# Altium schematic symbol library PDU.SchLib: 91 symbols (part 6 of 11)
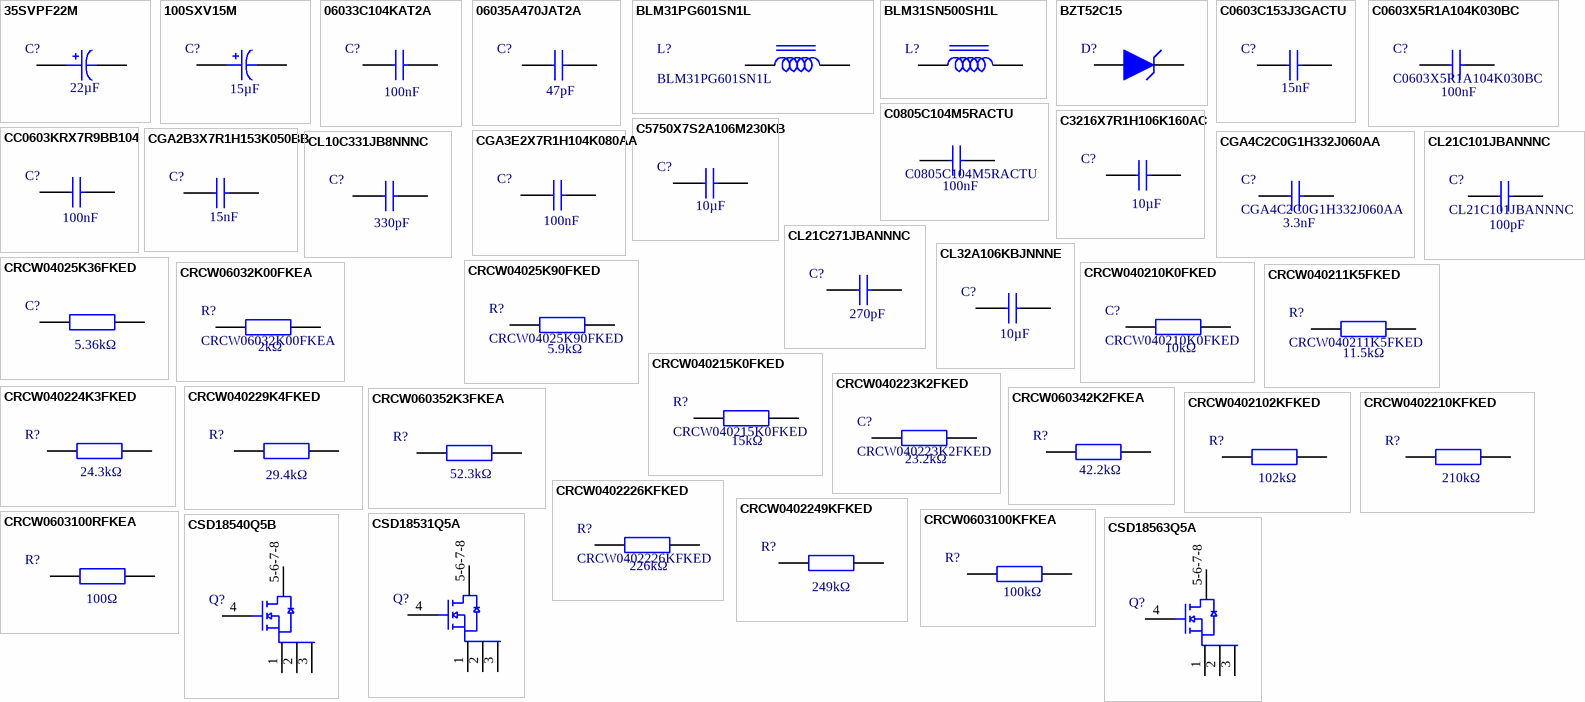
[diagram p7: symbols 35SVPF22M to CSD18563Q5A]

## CRCW0603100KFKEA
designator R?  value 100kΩ  (hidden comment: CRCW0603100KFKEA)
Res Thick Film 0603 100K Ohm 1% 1/3W ±100ppm/°C Molded SMD SMD Paper T/R; Manufacturer: Vishay; Manufacturer Part Number: CRCW0603100KFKEAHP; Max Power Dissipation: 250mW; Power Rating: 330mW; Voltage Rating: 75V; Supplier: Farnell; Supplier Part Number: CRCW0603100KFKEAHP; RoHS: Compliant; Category: Chip SMD Resistors; Stock: 78590; Pricing: 10=0,0404, 100=0,0303, 500=0,0261, 1000=0,0239, 2500=0,0223, 5000=0,0219 (EUR); Case/Package: 0603; Case Code (Imperial): 0603; Case Code (Metric): 1608; China RoHS: Non-Compliant; Composition: Thick Film; Contact Plating: Tin; Country of Origin: Israel; Depth: 850µm; Export Control Classification Number (ECCN) Code: EAR99; Features: Automotive AEC-Q200; Height: 450µm; Harmonized Tariff Schedule (HTS) Code: 8533.21.00.30; Introduction Date: 2008-07-29; Lead Free: Lead Free; Length: 1.6mm; Lifecycle Status: Production; Max Operating Temperature: 155°C; Military Standard: Not; Min Operating Temperature: -55°C; Mounting Technology: Surface Mount; Pins: 2; Number of Terminals: 2; Number of Terminations: 2; Packaging: Cut Tape; Radiation Hardening: No; Ratings: AEC-Q200; REACH SVHC: Yes; Schedule B: 8533210045, 8533210045|8533210045|8533210045|8533210045|8533210045; Temperature Coefficient: 100ppm/°C; Termination: SMD/SMT; Tolerance: 1%; Voltage Rating (DC): 75V; Weight: 2.012816mg; Width: 850µm; Working Voltage: 75V; ComponentLink1URL: https://datasheet.octopart.com:443/CRCW0603100KFKEAHP-Vishay-datasheet-13148866.pdf?src-supplier=Future+Electronics; ComponentLink1Description: https://datasheet.octopart.com:443/CRCW0603100KFKEAHP-Vishay-datasheet-13148866.pdf?src-supplier=Future+Electronics; ComponentLink2URL: https://datasheet.octopart.com:443/CRCW0603100KFKEAHP-Vishay-datasheet-13131392.pdf?src-supplier=Future+Electronics; ComponentLink2Description: https://datasheet.octopart.com:443/CRCW0603100KFKEAHP-Vishay-datasheet-13131392.pdf?src-supplier=Future+Electronics; ComponentLink3URL: https://datasheet.octopart.com:443/CRCW0603100KFKEAHP-Vishay-datasheet-12593106.pdf?src-supplier=Future+Electronics; ComponentLink3Description: https://datasheet.octopart.com:443/CRCW0603100KFKEAHP-Vishay-datasheet-12593106.pdf?src-supplier=Future+Electronics; ComponentLink4URL: https://datasheet.octopart.com:443/CRCW0603100KFKEAHP-Vishay-datasheet-12531795.pdf?src-supplier=Future+Electronics; ComponentLink4Description: https://datasheet.octopart.com:443/CRCW0603100KFKEAHP-Vishay-datasheet-12531795.pdf?src-supplier=Future+Electronics; ComponentLink5URL: https://datasheet.octopart.com:443/CRCW0603100KFKEAHP-Vishay-datasheet-12518686.pdf?src-supplier=Future+Electronics; ComponentLink5Description: https://datasheet.octopart.com:443/CRCW0603100KFKEAHP-Vishay-datasheet-12518686.pdf?src-supplier=Future+Electronics; ComponentLink6URL: https://datasheet.octopart.com:443/CRCW0603100KFKEAHP-Vishay-datasheet-12509906.pdf?src-supplier=Future+Electronics; ComponentLink6Description: https://datasheet.octopart.com:443/CRCW0603100KFKEAHP-Vishay-datasheet-12509906.pdf?src-supplier=Future+Electronics; ComponentLink7URL: https://datasheet.octopart.com:443/CRCW0603100KFKEAHP-Vishay-datasheet-10669844.pdf?src-supplier=Future+Electronics; ComponentLink7Description: https://datasheet.octopart.com:443/CRCW0603100KFKEAHP-Vishay-datasheet-10669844.pdf?src-supplier=Future+Electronics; ComponentLink8URL: https://datasheet.octopart.com:443/CRCW0603100KFKEAHP-Vishay-datasheet-8703221.pdf?src-supplier=Future+Electronics; ComponentLink8Description: https://datasheet.octopart.com:443/CRCW0603100KFKEAHP-Vishay-datasheet-8703221.pdf?src-supplier=Future+Electronics; ComponentLink9URL: https://datasheet.octopart.com:443/CRCW0603100KFKEAHP-Vishay-datasheet-62316122.pdf?src-supplier=Future+Electronics; ComponentLink9Description: https://datasheet.octopart.com:443/CRCW0603100KFKEAHP-Vishay-datasheet-62316122.pdf?src-supplier=Future+Electronics; ComponentLink10URL: https://datasheet.octopart.com:443/CRCW0603100KFKEAHP-Vishay-datasheet-12544674.pdf?src-supplier=_legacy+Avnet; ComponentLink10Description: https://datasheet.octopart.com:443/CRCW0603100KFKEAHP-Vishay-datasheet-12544674.pdf?src-supplier=_legacy+Avnet; ComponentLink11URL: https://datasheet.octopart.com:443/CRCW0603100KFKEAHP-Vishay-datasheet-87136057.pdf?src-supplier=Newark; ComponentLink11Description: https://datasheet.octopart.com:443/CRCW0603100KFKEAHP-Vishay-datasheet-87136057.pdf?src-supplier=Newark; ComponentLink12URL: https://datasheet.octopart.com:443/CRCW0603100KFKEAHP-Vishay-datasheet-66581887.pdf?src-supplier=Newark; ComponentLink12Description: https://datasheet.octopart.com:443/CRCW0603100KFKEAHP-Vishay-datasheet-66581887.pdf?src-supplier=Newark; ComponentLink13URL: https://datasheet.octopart.com:443/CRCW0603100KFKEAHP-Vishay-datasheet-37143532.pdf?src-supplier=Newark; ComponentLink13Description: https://datasheet.octopart.com:443/CRCW0603100KFKEAHP-Vishay-datasheet-37143532.pdf?src-supplier=Newark; ComponentLink14URL: https://datasheet.octopart.com:443/CRCW0603100KFKEAHP-Vishay-datasheet-8359436.pdf?src-supplier=Newark; ComponentLink14Description: https://datasheet.octopart.com:443/CRCW0603100KFKEAHP-Vishay-datasheet-8359436.pdf?src-supplier=Newark; ComponentLink15URL: https://datasheet.octopart.com:443/CRCW0603100KFKEAHP-Vishay-datasheet-112276998.pdf?src-supplier=Newark; ComponentLink15Description: https://datasheet.octopart.com:443/CRCW0603100KFKEAHP-Vishay-datasheet-112276998.pdf?src-supplier=Newark; ComponentLink16URL: https://datasheet.octopart.com:443/CRCW0603100KFKEAHP-Vishay-datasheet-62317933.pdf?src-supplier=element14+APAC; ComponentLink16Description: https://datasheet.octopart.com:443/CRCW0603100KFKEAHP-Vishay-datasheet-62317933.pdf?src-supplier=element14+APAC; ComponentLink17URL: https://datasheet.octopart.com/CRCW0603100KFKEAHP-Vishay-datasheet-83567917.pdf; ComponentLink17Description: https://datasheet.octopart.com/CRCW0603100KFKEAHP-Vishay-datasheet-83567917.pdf; ComponentLink18URL: https://datasheet.octopart.com/D-CRCW-e3-Standard-Thick-Film-Chip-Resistors-Vishay-datasheet-family-64.pdf; ComponentLink18Description: https://datasheet.octopart.com/D-CRCW-e3-Standard-Thick-Film-Chip-Resistors-Vishay-datasheet-family-64.pdf; ComponentLink19URL: https://datasheet.octopart.com:443/CRCW0603100KFKEAHP-Vishay-Dale-datasheet-47688881.pdf?src-supplier=RS+(Formerly+Allied+Electronics); ComponentLink19Description: https://datasheet.octopart.com:443/CRCW0603100KFKEAHP-Vishay-Dale-datasheet-47688881.pdf?src-supplier=RS+(Formerly+Allied+Electronics); ComponentLink20URL: http://sigma.octopart.com:80/rohs_certificate/D-CRCW-e3-Standard-Thick-Film-Chip-Resistors-Vishay-family-102.pdf?src-supplier=Compliance+Statements; ComponentLink20Description: http://sigma.octopart.com:80/rohs_certificate/D-CRCW-e3-Standard-Thick-Film-Chip-Resistors-Vishay-family-102.pdf?src-supplier=Compliance+Statements
footprint RES_0603 (RC0603FR-07576KL - RC0603FR-0720KL - RC0603FR-0793K1L -  CRCW0603100RFKEA - RC0603FR-0710KL - CRCW06032K00FKEA - RC0603FR-0710RL)
pins: 1, 2

## CRCW0603100RFKEA
designator R?  value 100Ω  (hidden comment: CRCW0603100RFKEA)
Res Thick Film 0603 100 Ohm 1% 0.1W(1/10W) ±100ppm/°C Pad SMD T/R Automotive AEC-Q200; Manufacturer: Vishay; Max Power Dissipation: 100mW; Voltage Rating: 75V; Supplier: Farnell; Supplier Part Number: CRCW0603100RFKEA; Manufacturer Part Number: CRCW0603100RFKEA; RoHS: Compliant; Category: Chip SMD Resistors; Stock: 1078795; Pricing: 10=0,0198, 100=0,0144, 500=0,0116, 1000=0,0106, 2500=0,0096 (EUR); Case/Package: 0603; Case Code (Imperial): 0603; China RoHS: Non-Compliant; Composition: Thick Film; Contact Plating: Tin; Country of Origin: Israel, Taiwan; Depth: 850µm; Export Control Classification Number (ECCN) Code: EAR99; Features: Automotive AEC-Q200; Height: 450µm; Harmonized Tariff Schedule (HTS) Code: 8533.21.00.30; Introduction Date: 2005-02-16; Lead Free: Lead Free; Length: 1.55mm; Lifecycle Status: Production; Max Operating Temperature: 155°C; Military Standard: Not; Min Operating Temperature: -55°C; Mounting Technology: Surface Mount; Pins: 2; Number of Terminals: 2; Number of Terminations: 2; Packaging: Cut Tape; Power Rating: 100mW; Radiation Hardening: No; Ratings: AEC-Q200; REACH SVHC: Yes; Schedule B: 8533210045; Temperature Coefficient: 100ppm/°C; Termination: SMD/SMT; Tolerance: 1%; Voltage Rating (DC): 75V; Weight: 2.012816mg; Width: 850µm; Working Voltage: 75V; ComponentLink1URL: https://datasheet.octopart.com:443/CRCW0603100RFKEA-Vishay-datasheet-175423584.pdf?src-supplier=Newark; ComponentLink1Description: https://datasheet.octopart.com:443/CRCW0603100RFKEA-Vishay-datasheet-175423584.pdf?src-supplier=Newark; ComponentLink2URL: https://datasheet.octopart.com:443/CRCW0603100RFKEA-Vishay-datasheet-14722531.pdf?src-supplier=Newark; ComponentLink2Description: https://datasheet.octopart.com:443/CRCW0603100RFKEA-Vishay-datasheet-14722531.pdf?src-supplier=Newark; ComponentLink3URL: https://datasheet.octopart.com:443/CRCW0603100RFKEA-Vishay-datasheet-11516975.pdf?src-supplier=Newark; ComponentLink3Description: https://datasheet.octopart.com:443/CRCW0603100RFKEA-Vishay-datasheet-11516975.pdf?src-supplier=Newark; ComponentLink4URL: https://datasheet.octopart.com:443/CRCW0603100RFKEA-Vishay-datasheet-41302739.pdf?src-supplier=Newark; ComponentLink4Description: https://datasheet.octopart.com:443/CRCW0603100RFKEA-Vishay-datasheet-41302739.pdf?src-supplier=Newark; ComponentLink5URL: https://datasheet.octopart.com:443/CRCW0603100RFKEA-Vishay-datasheet-33013972.pdf?src-supplier=Newark; ComponentLink5Description: https://datasheet.octopart.com:443/CRCW0603100RFKEA-Vishay-datasheet-33013972.pdf?src-supplier=Newark; ComponentLink6URL: https://datasheet.octopart.com:443/CRCW0603100RFKEA-Vishay-datasheet-21226360.pdf?src-supplier=Newark; ComponentLink6Description: https://datasheet.octopart.com:443/CRCW0603100RFKEA-Vishay-datasheet-21226360.pdf?src-supplier=Newark; ComponentLink7URL: https://datasheet.octopart.com:443/CRCW0603100RFKEA-Vishay-datasheet-62316122.pdf?src-supplier=Future+Electronics; ComponentLink7Description: https://datasheet.octopart.com:443/CRCW0603100RFKEA-Vishay-datasheet-62316122.pdf?src-supplier=Future+Electronics; ComponentLink8URL: https://datasheet.octopart.com:443/CRCW0603100RFKEA-Vishay-datasheet-5300368.pdf?src-supplier=Future+Electronics; ComponentLink8Description: https://datasheet.octopart.com:443/CRCW0603100RFKEA-Vishay-datasheet-5300368.pdf?src-supplier=Future+Electronics; ComponentLink9URL: https://datasheet.octopart.com:443/CRCW0603100RFKEA-Vishay-datasheet-83961561.pdf?src-supplier=element14+APAC; ComponentLink9Description: https://datasheet.octopart.com:443/CRCW0603100RFKEA-Vishay-datasheet-83961561.pdf?src-supplier=element14+APAC; ComponentLink10URL: https://datasheet.octopart.com:443/CRCW0603100RFKEA-Vishay-datasheet-62317933.pdf?src-supplier=element14+APAC; ComponentLink10Description: https://datasheet.octopart.com:443/CRCW0603100RFKEA-Vishay-datasheet-62317933.pdf?src-supplier=element14+APAC; ComponentLink11URL: https://datasheet.octopart.com:443/CRCW0603100RFKEA-Vishay-datasheet-16179825.pdf?src-supplier=element14+APAC; ComponentLink11Description: https://datasheet.octopart.com:443/CRCW0603100RFKEA-Vishay-datasheet-16179825.pdf?src-supplier=element14+APAC; ComponentLink12URL: https://datasheet.octopart.com:443/CRCW0603100RFKEA-Vishay-datasheet-66077789.pdf?src-supplier=element14+APAC; ComponentLink12Description: https://datasheet.octopart.com:443/CRCW0603100RFKEA-Vishay-datasheet-66077789.pdf?src-supplier=element14+APAC; ComponentLink13URL: https://datasheet.octopart.com:443/CRCW0603100RFKEA-Vishay-datasheet-5306405.pdf?src-supplier=RS+(Formerly+Allied+Electronics); ComponentLink13Description: https://datasheet.octopart.com:443/CRCW0603100RFKEA-Vishay-datasheet-5306405.pdf?src-supplier=RS+(Formerly+Allied+Electronics); ComponentLink14URL: https://datasheet.octopart.com:443/CRCW0603100RFKEA-Vishay-Dale-datasheet-47688880.pdf?src-supplier=RS+(Formerly+Allied+Electronics); ComponentLink14Description: https://datasheet.octopart.com:443/CRCW0603100RFKEA-Vishay-Dale-datasheet-47688880.pdf?src-supplier=RS+(Formerly+Allied+Electronics); ComponentLink15URL: https://datasheet.octopart.com:443/CRCW0603100RFKEA-Vishay-datasheet-12001583.pdf?src-supplier=RS+(Formerly+Allied+Electronics); ComponentLink15Description: https://datasheet.octopart.com:443/CRCW0603100RFKEA-Vishay-datasheet-12001583.pdf?src-supplier=RS+(Formerly+Allied+Electronics); ComponentLink16URL: https://datasheet.octopart.com:443/CRCW0603100RFKEA-Vishay-datasheet-192322423.pdf?src-supplier=HQonline; ComponentLink16Description: https://datasheet.octopart.com:443/CRCW0603100RFKEA-Vishay-datasheet-192322423.pdf?src-supplier=HQonline; ComponentLink17URL: https://datasheet.octopart.com:443/CRCW0603100RFKEA-Vishay-datasheet-137113732.pdf?src-supplier=X-ON; ComponentLink17Description: https://datasheet.octopart.com:443/CRCW0603100RFKEA-Vishay-datasheet-137113732.pdf?src-supplier=X-ON; ComponentLink18URL: https://datasheet.octopart.com:443/CRCW0603100RFKEA-Vishay-datasheet-17834126.pdf?src-supplier=TME; ComponentLink18Description: https://datasheet.octopart.com:443/CRCW0603100RFKEA-Vishay-datasheet-17834126.pdf?src-supplier=TME; ComponentLink19URL: https://datasheet.octopart.com/D-CRCW-e3-Standard-Thick-Film-Chip-Resistors-Vishay-datasheet-family-64.pdf; ComponentLink19Description: https://datasheet.octopart.com/D-CRCW-e3-Standard-Thick-Film-Chip-Resistors-Vishay-datasheet-family-64.pdf; ComponentLink20URL: https://datasheet.octopart.com:443/CRCW0603100RFKEA-Vishay-datasheet-13242068.pdf?src-supplier=Farnell; ComponentLink20Description: https://datasheet.octopart.com:443/CRCW0603100RFKEA-Vishay-datasheet-13242068.pdf?src-supplier=Farnell; ComponentLink21URL: https://datasheet.octopart.com:443/CRCW0603100RFKEA-Vishay-datasheet-13195083.pdf?src-supplier=Farnell; ComponentLink21Description: https://datasheet.octopart.com:443/CRCW0603100RFKEA-Vishay-datasheet-13195083.pdf?src-supplier=Farnell; ComponentLink22URL: https://datasheet.octopart.com:443/CRCW0603100RFKEA-Vishay-datasheet-13034211.pdf?src-supplier=Farnell; ComponentLink22Description: https://datasheet.octopart.com:443/CRCW0603100RFKEA-Vishay-datasheet-13034211.pdf?src-supplier=Farnell; ComponentLink23URL: https://datasheet.octopart.com:443/CRCW0603100RFKEA-Vishay-datasheet-12600034.pdf?src-supplier=Farnell; ComponentLink23Description: https://datasheet.octopart.com:443/CRCW0603100RFKEA-Vishay-datasheet-12600034.pdf?src-supplier=Farnell; ComponentLink24URL: https://datasheet.octopart.com:443/CRCW0603100RFKEA-Vishay-datasheet-12532161.pdf?src-supplier=Farnell; ComponentLink24Description: https://datasheet.octopart.com:443/CRCW0603100RFKEA-Vishay-datasheet-12532161.pdf?src-supplier=Farnell; ComponentLink25URL: https://datasheet.octopart.com:443/CRCW0603100RFKEA-Vishay-datasheet-12517896.pdf?src-supplier=Farnell; ComponentLink25Description: https://datasheet.octopart.com:443/CRCW0603100RFKEA-Vishay-datasheet-12517896.pdf?src-supplier=Farnell; ComponentLink26URL: https://datasheet.octopart.com:443/CRCW0603100RFKEA-Vishay-datasheet-12509762.pdf?src-supplier=Farnell; ComponentLink26Description: https://datasheet.octopart.com:443/CRCW0603100RFKEA-Vishay-datasheet-12509762.pdf?src-supplier=Farnell; ComponentLink27URL: https://datasheet.octopart.com:443/CRCW0603100RFKEA-Vishay-datasheet-10322335.pdf?src-supplier=Farnell; ComponentLink27Description: https://datasheet.octopart.com:443/CRCW0603100RFKEA-Vishay-datasheet-10322335.pdf?src-supplier=Farnell; ComponentLink28URL: https://datasheet.octopart.com:443/CRCW0603100RFKEA-Vishay-datasheet-8788789.pdf?src-supplier=Farnell; ComponentLink28Description: https://datasheet.octopart.com:443/CRCW0603100RFKEA-Vishay-datasheet-8788789.pdf?src-supplier=Farnell; ComponentLink29URL: https://datasheet.octopart.com:443/CRCW0603100RFKEA-Vishay-datasheet-8361388.pdf?src-supplier=Farnell; ComponentLink29Description: https://datasheet.octopart.com:443/CRCW0603100RFKEA-Vishay-datasheet-8361388.pdf?src-supplier=Farnell; ComponentLink30URL: https://datasheet.octopart.com:443/CRCW0603100RFKEA-Vishay-datasheet-546287.pdf?src-supplier=Farnell; ComponentLink30Description: https://datasheet.octopart.com:443/CRCW0603100RFKEA-Vishay-datasheet-546287.pdf?src-supplier=Farnell; ComponentLink31URL: https://datasheet.octopart.com:443/CRCW0603100RFKEA-Vishay-datasheet-11540273.pdf?src-supplier=Arrow+Electronics; ComponentLink31Description: https://datasheet.octopart.com:443/CRCW0603100RFKEA-Vishay-datasheet-11540273.pdf?src-supplier=Arrow+Electronics; ComponentLink32URL: https://datasheet.octopart.com:443/CRCW0603100RFKEA-Vishay-datasheet-8445837.pdf?src-supplier=element14; ComponentLink32Description: https://datasheet.octopart.com:443/CRCW0603100RFKEA-Vishay-datasheet-8445837.pdf?src-supplier=element14; ComponentLink33URL: https://datasheet.octopart.com:443/CRCW0603100RFKEA-Vishay-datasheet-5377433.pdf?src-supplier=Garrett; ComponentLink33Description: https://datasheet.octopart.com:443/CRCW0603100RFKEA-Vishay-datasheet-5377433.pdf?src-supplier=Garrett; ComponentLink34URL: https://datasheet.octopart.com:443/CRCW0603100RFKEA-Vishay-datasheet-148188.pdf?src-supplier=Garrett; ComponentLink34Description: https://datasheet.octopart.com:443/CRCW0603100RFKEA-Vishay-datasheet-148188.pdf?src-supplier=Garrett; ComponentLink35URL: https://datasheet.octopart.com:443/CRCW0603100RFKEA-Vishay-datasheet-30224.pdf?src-supplier=Garrett; ComponentLink35Description: https://datasheet.octopart.com:443/CRCW0603100RFKEA-Vishay-datasheet-30224.pdf?src-supplier=Garrett; ComponentLink36URL: http://sigma.octopart.com:80/rohs_certificate/D-CRCW-e3-Standard-Thick-Film-Chip-Resistors-Vishay-family-102.pdf?src-supplier=Compliance+Statements; ComponentLink36Description: http://sigma.octopart.com:80/rohs_certificate/D-CRCW-e3-Standard-Thick-Film-Chip-Resistors-Vishay-family-102.pdf?src-supplier=Compliance+Statements
footprint RES_0603 (RC0603FR-07576KL - RC0603FR-0720KL - RC0603FR-0793K1L -  CRCW0603100RFKEA - RC0603FR-0710KL - CRCW06032K00FKEA - RC0603FR-0710RL)
pins: 1, 2

## CSD18531Q5A
designator Q?  (value not drawn)
60-V, N channel NexFET™ power MOSFET, single SON 5 mm x 6 mm, 4.6 mOhm 8-VSONP -55 to 150; Manufacturer: Texas Instruments; Manufacturer Part Number: CSD18531Q5AT; Manufacturer Lifecycle Status: ACTIVE; Continuous Drain Current (ID): 19A; Drain to Source Breakdown Voltage: 60V; Drain to Source Resistance: 3.5mΩ; Fall Time: 2.7ns; Gate to Source Voltage (Vgs): 20V; Input Capacitance: 3.84nF; Max Junction Temperature (Tj): 175°C; Max Power Dissipation: 3.1W; Number of Channels: 1; Power Dissipation: 3.8W; Rds On Max: 4.6mΩ; Value: 3.5mΩ; Rise Time: 7.8ns; Turn-Off Delay Time: 20ns; Turn-On Delay Time: 4.4ns; Supplier: Arrow Electronics; Supplier Part Number: CSD18531Q5AT; RoHS: Compliant; Category: MOSFETs; Pricing: 250=0,8338 (USD); Contact Plating: Tin; Drain to Source Voltage (Vdss): 60V; Element Configuration: Single; Height: 1.1mm; Lead Free: Contains Lead; Length: 4.9mm; Lifecycle Status: Production; Max Operating Temperature: 150°C; Min Operating Temperature: -55°C; Mounting Technology: Surface Mount; Pins: 8; Packaging: Tape & Reel (TR); Schedule B: 8541290080, 8541290080|8541290080|8541290080|8541290080|8541290080; Thickness: 1mm; Width: 6mm; ComponentLink1URL: https://sigma.octopart.com:443/184372194/technical_drawing/Texas-Instruments-CSD18531Q5AT.pdf?src-supplier=Texas+Instruments; ComponentLink1Description: https://sigma.octopart.com:443/184372194/technical_drawing/Texas-Instruments-CSD18531Q5AT.pdf?src-supplier=Texas+Instruments; ComponentLink2URL: https://octopart.com:443/opatz8j6/c1?t=W2rgiyD8EjdRm1lOlBGoi7T6EEwWZbXWrvnEMGu-A6b8yCru-_x-ioUheIPm0hxZEgjghIgVtPE7G2yaPvvywfBu5e_gdtPPfVxi3_MN2KaDnaFHT6eOwBCucXVzfSMTayYIqoRMHLEh-JgOuNfv0A0EbM76JoV5YlW5CScQnzkUGicMF0MVaNH8qV9Xa8SEM2jbnuuMLUncsLlJ2Nh_6_HcvYALWEcpw-1ynH0F38U8j3r_BkZDi93FTevgE5QOgVnjDW5Tb2x-_jnB4s8BDtSwP8ocS-5RH8orsDAZrGiujDbFgbWPSiX966ts_AoMkv91lGcKW3xUpcpSdzRQwiT4IIdsP0R0j06tuTnbm32eNkMYCAe8Y2R0e9qZlXzEIumhKZZtVvlT&src-supplier=Texas+Instruments; ComponentLink2Description: https://octopart.com:443/opatz8j6/c1?t=W2rgiyD8EjdRm1lOlBGoi7T6EEwWZbXWrvnEMGu-A6b8yCru-_x-ioUheIPm0hxZEgjghIgVtPE7G2yaPvvywfBu5e_gdtPPfVxi3_MN2KaDnaFHT6eOwBCucXVzfSMTayYIqoRMHLEh-JgOuNfv0A0EbM76JoV5YlW5CScQnzkUGicMF0MVaNH8qV9Xa8SEM2jbnuuMLUncsLlJ2Nh_6_HcvYALWEcpw-1ynH0F38U8j3r_BkZDi93FTevgE5QOgVnjDW5Tb2x-_jnB4s8BDtSwP8ocS-5RH8orsDAZrGiujDbFgbWPSiX966ts_AoMkv91lGcKW3xUpcpSdzRQwiT4IIdsP0R0j06tuTnbm32eNkMYCAe8Y2R0e9qZlXzEIumhKZZtVvlT&src-supplier=Texas+Instruments; ComponentLink3URL: https://sigma.octopart.com:443/183468693/technical_drawing/Texas-Instruments-CSD18531Q5AT.pdf?src-supplier=Texas+Instruments; ComponentLink3Description: https://sigma.octopart.com:443/183468693/technical_drawing/Texas-Instruments-CSD18531Q5AT.pdf?src-supplier=Texas+Instruments; ComponentLink4URL: https://datasheet.octopart.com:443/CSD18531Q5AT-Texas-Instruments-datasheet-41215258.pdf?src-supplier=Texas+Instruments; ComponentLink4Description: https://datasheet.octopart.com:443/CSD18531Q5AT-Texas-Instruments-datasheet-41215258.pdf?src-supplier=Texas+Instruments; ComponentLink5URL: https://datasheet.octopart.com:443/CSD18531Q5AT-Texas-Instruments-datasheet-38229661.pdf?src-supplier=Texas+Instruments; ComponentLink5Description: https://datasheet.octopart.com:443/CSD18531Q5AT-Texas-Instruments-datasheet-38229661.pdf?src-supplier=Texas+Instruments; ComponentLink6URL: https://datasheet.octopart.com:443/CSD18531Q5AT-Texas-Instruments-datasheet-153410981.pdf?src-supplier=Upverter; ComponentLink6Description: https://datasheet.octopart.com:443/CSD18531Q5AT-Texas-Instruments-datasheet-153410981.pdf?src-supplier=Upverter; ComponentLink7URL: https://datasheet.octopart.com:443/CSD18531Q5AT-Texas-Instruments-datasheet-163657923.pdf?src-supplier=Augswan; ComponentLink7Description: https://datasheet.octopart.com:443/CSD18531Q5AT-Texas-Instruments-datasheet-163657923.pdf?src-supplier=Augswan; ComponentLink8URL: https://datasheet.octopart.com:443/CSD18531Q5AT-Texas-Instruments-datasheet-97084065.pdf?src-supplier=TME; ComponentLink8Description: https://datasheet.octopart.com:443/CSD18531Q5AT-Texas-Instruments-datasheet-97084065.pdf?src-supplier=TME; ComponentLink9URL: https://datasheet.octopart.com:443/CSD18531Q5AT-Texas-Instruments-datasheet-140571312.pdf?src-supplier=Arrow.cn; ComponentLink9Description: https://datasheet.octopart.com:443/CSD18531Q5AT-Texas-Instruments-datasheet-140571312.pdf?src-supplier=Arrow.cn; ComponentLink10URL: https://datasheet.octopart.com:443/CSD18531Q5AT-Texas-Instruments-datasheet-62088669.pdf?src-supplier=Newark; ComponentLink10Description: https://datasheet.octopart.com:443/CSD18531Q5AT-Texas-Instruments-datasheet-62088669.pdf?src-supplier=Newark; ComponentLink11URL: https://datasheet.octopart.com:443/CSD18531Q5AT-Texas-Instruments-datasheet-44402567.pdf?src-supplier=Newark; ComponentLink11Description: https://datasheet.octopart.com:443/CSD18531Q5AT-Texas-Instruments-datasheet-44402567.pdf?src-supplier=Newark; ComponentLink12URL: http://sigma.octopart.com:80/reach_statement/Texas-Instruments-company-64.pdf?src-supplier=Compliance+Statements; ComponentLink12Description: http://sigma.octopart.com:80/reach_statement/Texas-Instruments-company-64.pdf?src-supplier=Compliance+Statements; ComponentLink13URL: http://sigma.octopart.com:80/conflict_mineral_statement/Texas-Instruments-company-63.pdf?src-supplier=Compliance+Statements; ComponentLink13Description: http://sigma.octopart.com:80/conflict_mineral_statement/Texas-Instruments-company-63.pdf?src-supplier=Compliance+Statements
footprint SON 5X6 (CSD19534Q5A - CSD18540Q5B - CSD18531Q5A)
pins: 1 S, 2 S, 3 S, 4 G, 5-6-7-8 D

## CSD18540Q5B
designator Q?  (value not drawn)
60-V, N channel NexFET™ power MOSFET, single SON 5 mm x 6 mm, 2.2 mOhm 8-VSON-CLIP -55 to 175; Manufacturer: Texas Instruments; Manufacturer Lifecycle Status: ACTIVE; Continuous Drain Current (ID): 29A; Drain to Source Resistance: 1.8mΩ; Drain to Source Voltage (Vdss): 60V; Fall Time: 3ns; Gate to Source Voltage (Vgs): 20V; Input Capacitance: 4.23nF; Max Junction Temperature (Tj): 175°C; Max Power Dissipation: 3.1W; Number of Channels: 1; Power Dissipation: 3.8W; Rds On Max: 2.2mΩ; Rise Time: 9ns; Turn-Off Delay Time: 20ns; Turn-On Delay Time: 6ns; Supplier: Arrow Electronics; Supplier Part Number: CSD18540Q5B; Manufacturer Part Number: CSD18540Q5B; RoHS: Compliant; Category: MOSFETs; Stock: 867; Pricing: 1=2,6866, 10=1,8382, 25=1,8215, 100=1,293, 250=1,2821, 500=1,0204 (USD); Contact Plating: Gold; Element Configuration: Single; Height: 0m; Lead Free: Contains Lead; Length: 5mm; Lifecycle Status: Production; Max Operating Temperature: 175°C; Min Operating Temperature: -55°C; Mounting Technology: Surface Mount; Pins: 8; Packaging: Tape & Reel (TR); Schedule B: 8541290080, 8541290080|8541290080|8541290080|8541290080|8541290080; Thickness: 950µm; Width: 5mm; ComponentLink1URL: https://datasheet.octopart.com:443/CSD18540Q5B-Texas-Instruments-datasheet-41215267.pdf?src-supplier=Texas+Instruments; ComponentLink1Description: https://datasheet.octopart.com:443/CSD18540Q5B-Texas-Instruments-datasheet-41215267.pdf?src-supplier=Texas+Instruments; ComponentLink2URL: https://octopart.com:443/opatz8j6/c1?t=SUskelIlBWIo_nWBJiAx1_ldGWU3oeiOn-EJs-5do1YusiS-JDvlKRrouVl-Y20ao-5z_08mEvz_AeJefeF_pOrLs0WfjhDJ2_xgnnOXWDpra4Cd3mKzckoQ6QanCMAXyB-vVCGNjBMeeyDAJ_8AtgWzG5J-VV0M2AC15IA14uOxBYYbIO1uRZi3YsibPr8OpLgj2-g8ey3MShCBBxtcPxAJXU9zClIpSD2jte82BFzbVJ9hhAzdJsrLZ3RNwxiUfmRI5v2vfH2Xq2tWnkVJNmbpw4R6VYt-2jb8TG9SzpqJvWz5ux_mibd2tkPbQSuE4I96mnLqjONPYMf24_myiaENOmBZXsZhO5Lu3rDJDhrEeNYScROBq6ZJRXBJXpuxfZxAZ_Uv9q79&src-supplier=Texas+Instruments; ComponentLink2Description: https://octopart.com:443/opatz8j6/c1?t=SUskelIlBWIo_nWBJiAx1_ldGWU3oeiOn-EJs-5do1YusiS-JDvlKRrouVl-Y20ao-5z_08mEvz_AeJefeF_pOrLs0WfjhDJ2_xgnnOXWDpra4Cd3mKzckoQ6QanCMAXyB-vVCGNjBMeeyDAJ_8AtgWzG5J-VV0M2AC15IA14uOxBYYbIO1uRZi3YsibPr8OpLgj2-g8ey3MShCBBxtcPxAJXU9zClIpSD2jte82BFzbVJ9hhAzdJsrLZ3RNwxiUfmRI5v2vfH2Xq2tWnkVJNmbpw4R6VYt-2jb8TG9SzpqJvWz5ux_mibd2tkPbQSuE4I96mnLqjONPYMf24_myiaENOmBZXsZhO5Lu3rDJDhrEeNYScROBq6ZJRXBJXpuxfZxAZ_Uv9q79&src-supplier=Texas+Instruments; ComponentLink3URL: https://datasheet.octopart.com:443/CSD18540Q5B-Texas-Instruments-datasheet-27303987.pdf?src-supplier=Texas+Instruments; ComponentLink3Description: https://datasheet.octopart.com:443/CSD18540Q5B-Texas-Instruments-datasheet-27303987.pdf?src-supplier=Texas+Instruments; ComponentLink4URL: https://datasheet.octopart.com:443/CSD18540Q5B-Texas-Instruments-datasheet-145028107.pdf?src-supplier=Arrow.cn; ComponentLink4Description: https://datasheet.octopart.com:443/CSD18540Q5B-Texas-Instruments-datasheet-145028107.pdf?src-supplier=Arrow.cn; ComponentLink5URL: http://sigma.octopart.com:80/reach_statement/Texas-Instruments-company-64.pdf?src-supplier=Compliance+Statements; ComponentLink5Description: http://sigma.octopart.com:80/reach_statement/Texas-Instruments-company-64.pdf?src-supplier=Compliance+Statements; ComponentLink6URL: http://sigma.octopart.com:80/conflict_mineral_statement/Texas-Instruments-company-63.pdf?src-supplier=Compliance+Statements; ComponentLink6Description: http://sigma.octopart.com:80/conflict_mineral_statement/Texas-Instruments-company-63.pdf?src-supplier=Compliance+Statements
footprint SON 5X6 (CSD19534Q5A - CSD18540Q5B - CSD18531Q5A)
pins: 1 S, 2 S, 3 S, 4 G, 5-6-7-8 D

## CSD18563Q5A
designator Q?  (value not drawn)
60-V, N channel NexFET™ power MOSFET, single SON 5 mm x 6 mm, 6.8 mOhm 8-VSONP -55 to 150; Manufacturer: Texas Instruments; Manufacturer Lifecycle Status: ACTIVE; Continuous Drain Current (ID): 15A; Drain to Source Breakdown Voltage: 60V; Drain to Source Resistance: 5.7mΩ; Fall Time: 1.7ns; Gate to Source Voltage (Vgs): 20V; Input Capacitance: 1.5nF; Max Junction Temperature (Tj): 150°C; Max Power Dissipation: 3.2W; Nominal Vgs: 2V; Number of Channels: 1; Rds On Max: 6.8mΩ; Rise Time: 6.3ns; Turn-Off Delay Time: 11.4ns; Turn-On Delay Time: 3.2ns; Supplier: Arrow Electronics; Supplier Part Number: CSD18563Q5A; Manufacturer Part Number: CSD18563Q5A; RoHS: Compliant; Category: MOSFETs; Stock: 310; Pricing: 1=1,8015, 10=1,1755, 25=1,153, 100=0,7897, 250=0,4809 (USD); Case/Package: SMD/SMT; Contact Plating: Tin; Drain to Source Voltage (Vdss): 60V; Element Configuration: Single; Height: 1.1mm; Lead Free: Contains Lead; Length: 4.9mm; Lifecycle Status: Production; Max Operating Temperature: 150°C; Min Operating Temperature: -55°C; Mounting Technology: Surface Mount; Number of Elements: 1; Pins: 8; Power Dissipation: 3.2W; REACH SVHC: No; Schedule B: 8541290080, 8541290080|8541290080|8541290080|8541290080|8541290080; Thickness: 1mm; Threshold Voltage: 2V; Width: 6mm; ComponentLink1URL: https://sigma.octopart.com:443/184372194/technical_drawing/Texas-Instruments-CSD18563Q5A.pdf?src-supplier=Texas+Instruments; ComponentLink1Description: https://sigma.octopart.com:443/184372194/technical_drawing/Texas-Instruments-CSD18563Q5A.pdf?src-supplier=Texas+Instruments; ComponentLink2URL: https://octopart.com:443/opatz8j6/c1?t=cDlHP-nwod-UrTS5MQLBpnpDYKU81KfXZd0WIxwHVyDluJBsD-qzddP2QWeYshZMVLFvn-XXXUKwo92E12vZ99vTC2tuXrARVDgOfcVWHlEWklqGN5tuVZ0larHJnItfrHBea9QDmv9vipM55Nvz6p-GjLR-rQwE0UZqnFc0Fzik9ED-naljrhRUinUxGXB2zY_Vm7YgAsUc4yyz_KvlWjbFS2EmqwPzcjQvljt88dnThRaGs5pTcMpNDCZ9sQhtjnDwdEPZWIy2Ed_tCU4jqxfdHRCg7_eWsHlZMWqOTd8HLFQ2xB1v7dbSuqbTagO1wEqc8I0-XetWFPjRjBDhhXWC8TqTZ-VysNuLBAr14a3cqhDsGdgDzKCCn-w2NiCMrzY4ccQXQDbT&src-supplier=Texas+Instruments; ComponentLink2Description: https://octopart.com:443/opatz8j6/c1?t=cDlHP-nwod-UrTS5MQLBpnpDYKU81KfXZd0WIxwHVyDluJBsD-qzddP2QWeYshZMVLFvn-XXXUKwo92E12vZ99vTC2tuXrARVDgOfcVWHlEWklqGN5tuVZ0larHJnItfrHBea9QDmv9vipM55Nvz6p-GjLR-rQwE0UZqnFc0Fzik9ED-naljrhRUinUxGXB2zY_Vm7YgAsUc4yyz_KvlWjbFS2EmqwPzcjQvljt88dnThRaGs5pTcMpNDCZ9sQhtjnDwdEPZWIy2Ed_tCU4jqxfdHRCg7_eWsHlZMWqOTd8HLFQ2xB1v7dbSuqbTagO1wEqc8I0-XetWFPjRjBDhhXWC8TqTZ-VysNuLBAr14a3cqhDsGdgDzKCCn-w2NiCMrzY4ccQXQDbT&src-supplier=Texas+Instruments; ComponentLink3URL: https://sigma.octopart.com:443/183468693/technical_drawing/Texas-Instruments-CSD18563Q5A.pdf?src-supplier=Texas+Instruments; ComponentLink3Description: https://sigma.octopart.com:443/183468693/technical_drawing/Texas-Instruments-CSD18563Q5A.pdf?src-supplier=Texas+Instruments; ComponentLink4URL: https://datasheet.octopart.com:443/CSD18563Q5A-Texas-Instruments-datasheet-36993140.pdf?src-supplier=Texas+Instruments; ComponentLink4Description: https://datasheet.octopart.com:443/CSD18563Q5A-Texas-Instruments-datasheet-36993140.pdf?src-supplier=Texas+Instruments; ComponentLink5URL: https://datasheet.octopart.com:443/CSD18563Q5A-Texas-Instruments-datasheet-21773002.pdf?src-supplier=Texas+Instruments; ComponentLink5Description: https://datasheet.octopart.com:443/CSD18563Q5A-Texas-Instruments-datasheet-21773002.pdf?src-supplier=Texas+Instruments; ComponentLink6URL: https://datasheet.octopart.com:443/CSD18563Q5A-Texas-Instruments-datasheet-16941254.pdf?src-supplier=Texas+Instruments; ComponentLink6Description: https://datasheet.octopart.com:443/CSD18563Q5A-Texas-Instruments-datasheet-16941254.pdf?src-supplier=Texas+Instruments; ComponentLink7URL: https://datasheet.octopart.com:443/CSD18563Q5A-Texas-Instruments-datasheet-41215268.pdf?src-supplier=Farnell; ComponentLink7Description: https://datasheet.octopart.com:443/CSD18563Q5A-Texas-Instruments-datasheet-41215268.pdf?src-supplier=Farnell; ComponentLink8URL: https://datasheet.octopart.com:443/CSD18563Q5A-Texas-Instruments-datasheet-97084075.pdf?src-supplier=Newark; ComponentLink8Description: https://datasheet.octopart.com:443/CSD18563Q5A-Texas-Instruments-datasheet-97084075.pdf?src-supplier=Newark; ComponentLink9URL: https://datasheet.octopart.com:443/CSD18563Q5A-Texas-Instruments-datasheet-62115722.pdf?src-supplier=Newark; ComponentLink9Description: https://datasheet.octopart.com:443/CSD18563Q5A-Texas-Instruments-datasheet-62115722.pdf?src-supplier=Newark; ComponentLink10URL: https://datasheet.octopart.com:443/CSD18563Q5A-Texas-Instruments-datasheet-33010040.pdf?src-supplier=Newark; ComponentLink10Description: https://datasheet.octopart.com:443/CSD18563Q5A-Texas-Instruments-datasheet-33010040.pdf?src-supplier=Newark; ComponentLink11URL: https://datasheet.octopart.com:443/CSD18563Q5A-Texas-Instruments-datasheet-21220899.pdf?src-supplier=Newark; ComponentLink11Description: https://datasheet.octopart.com:443/CSD18563Q5A-Texas-Instruments-datasheet-21220899.pdf?src-supplier=Newark; ComponentLink12URL: https://datasheet.octopart.com:443/CSD18563Q5A-Texas-Instruments-datasheet-164413840.pdf?src-supplier=Augswan; ComponentLink12Description: https://datasheet.octopart.com:443/CSD18563Q5A-Texas-Instruments-datasheet-164413840.pdf?src-supplier=Augswan; ComponentLink13URL: https://datasheet.octopart.com:443/CSD18563Q5A-Texas-Instruments-datasheet-159114916.pdf?src-supplier=LCSC; ComponentLink13Description: https://datasheet.octopart.com:443/CSD18563Q5A-Texas-Instruments-datasheet-159114916.pdf?src-supplier=LCSC; ComponentLink14URL: https://datasheet.octopart.com:443/CSD18563Q5A-Texas-Instruments-datasheet-142046464.pdf?src-supplier=Arrow.cn; ComponentLink14Description: https://datasheet.octopart.com:443/CSD18563Q5A-Texas-Instruments-datasheet-142046464.pdf?src-supplier=Arrow.cn; ComponentLink15URL: http://sigma.octopart.com:80/reach_statement/Texas-Instruments-company-64.pdf?src-supplier=Compliance+Statements; ComponentLink15Description: http://sigma.octopart.com:80/reach_statement/Texas-Instruments-company-64.pdf?src-supplier=Compliance+Statements; ComponentLink16URL: http://sigma.octopart.com:80/conflict_mineral_statement/Texas-Instruments-company-63.pdf?src-supplier=Compliance+Statements; ComponentLink16Description: http://sigma.octopart.com:80/conflict_mineral_statement/Texas-Instruments-company-63.pdf?src-supplier=Compliance+Statements
footprint SON 5X6 (CSD19534Q5A - CSD18540Q5B - CSD18531Q5A)
pins: 1 S, 2 S, 3 S, 4 G, 5-6-7-8 D

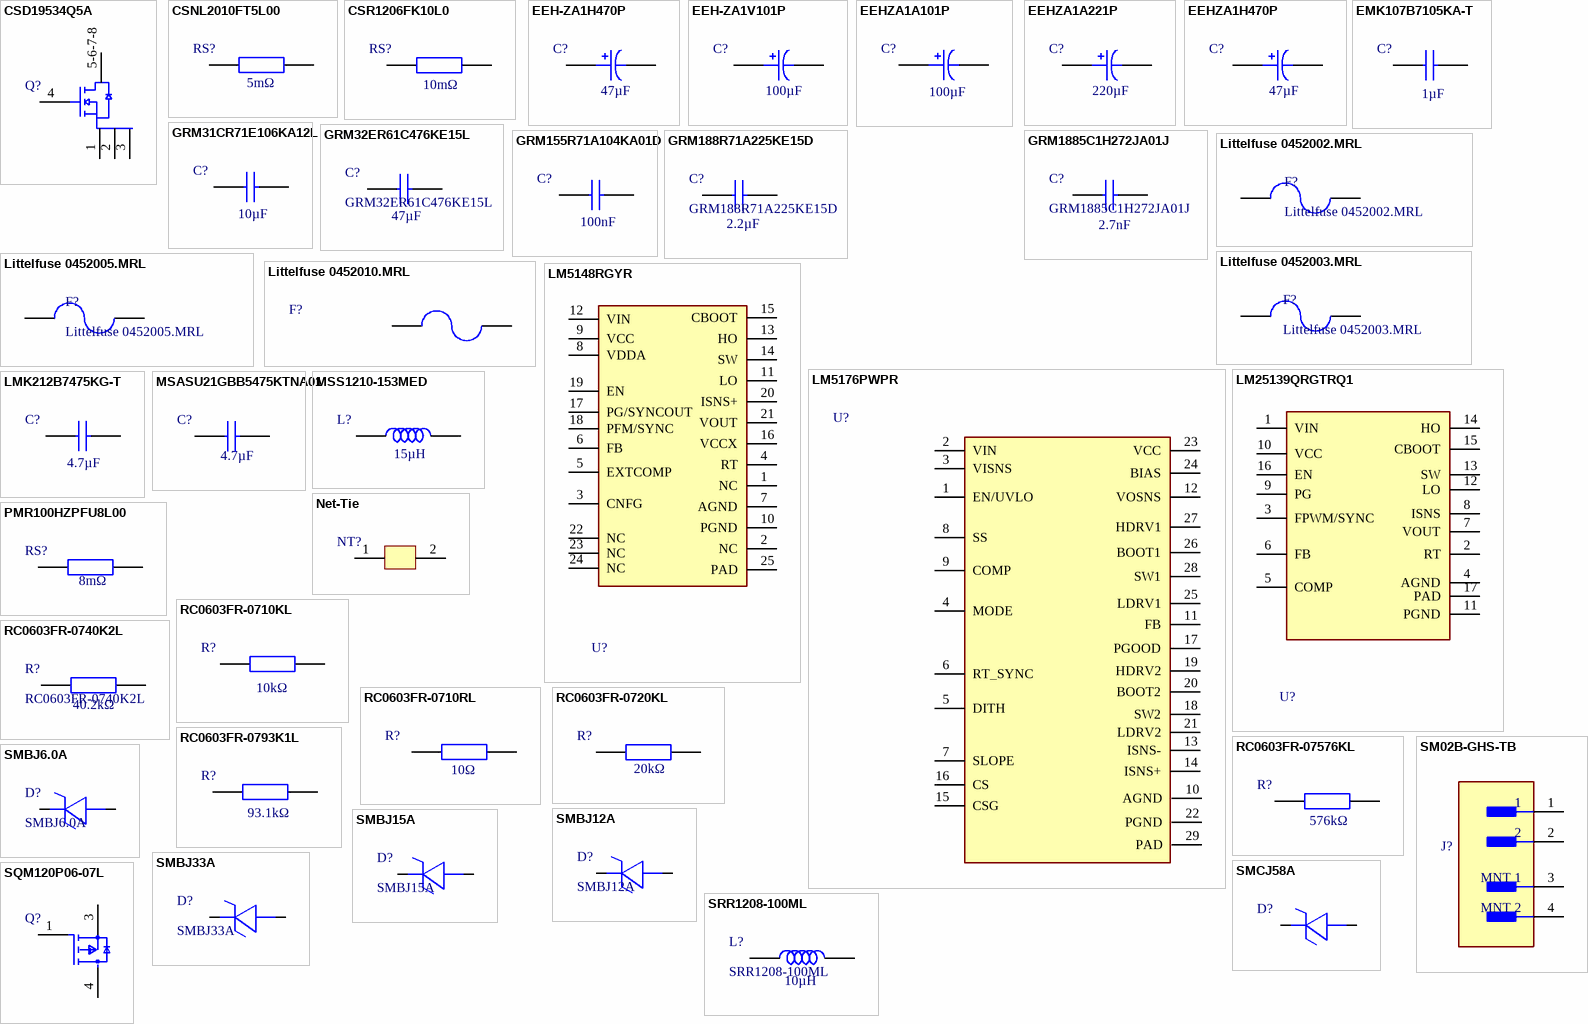
[diagram p1: symbols CSD19534Q5A to SRR1208-100ML]

## CSD19534Q5A
designator Q?  (value not drawn)
100-V, N channel NexFET™ power MOSFET, single SON 5 mm x 6 mm, 15.1 mOhm 8-VSONP -55 to 150; Manufacturer: Texas Instruments; Manufacturer Lifecycle Status: ACTIVE; Continuous Drain Current (ID): 10A; Drain to Source Breakdown Voltage: 100V; Drain to Source Resistance: 12.6mΩ; Fall Time: 6ns; Gate to Source Voltage (Vgs): 20V; Input Capacitance: 1.68nF; Max Junction Temperature (Tj): 150°C; Max Power Dissipation: 3.2W; Number of Channels: 1; Rds On Max: 15.1mΩ; Rise Time: 14ns; Turn-Off Delay Time: 20ns; Turn-On Delay Time: 9ns; Supplier: Arrow Electronics; Supplier Part Number: CSD19534Q5A; Manufacturer Part Number: CSD19534Q5A; RoHS: Compliant; Category: MOSFETs; Pricing: 2500=0,3513, 5000=0,3438 (USD); Contact Plating: Tin; Drain to Source Voltage (Vdss): 100V; Element Configuration: Single; Height: 1.1mm; Lead Free: Contains Lead; Length: 4.9mm; Lifecycle Status: Production; Max Operating Temperature: 150°C; Min Operating Temperature: -55°C; Mounting Technology: Surface Mount; Pins: 8; Packaging: Tape & Reel (TR); Power Dissipation: 3.2W; Schedule B: 8541290080, 8541290080|8541290080|8541290080|8541290080|8541290080; Thickness: 1mm; Width: 6mm; ComponentLink1URL: https://sigma.octopart.com:443/184372194/technical_drawing/Texas-Instruments-CSD19534Q5A.pdf?src-supplier=Texas+Instruments; ComponentLink1Description: https://sigma.octopart.com:443/184372194/technical_drawing/Texas-Instruments-CSD19534Q5A.pdf?src-supplier=Texas+Instruments; ComponentLink2URL: https://octopart.com:443/opatz8j6/c1?t=SSdhDRwUEWccND8BYLrNj5wD1DjtHCJGpPp5qL4eDQ_gKDkqciQPO5ZgVlRSX3tJETDLPepYZu7qB-RWFbr__4iawFYiX1x0f3L0zYoZy4CUlTc3azSR3e1lnSN8-jfdVdH1s6CMhBb3JPIXtzs8hm8jvaRxQoLGESKQubNtZgDwPXHZ0ZsYo1Ep0h1d3sd73Ka2YfZZK1yMAljyxNHUS4SSJhdwFE68WOjR8hdkuIs9zH66t5n-H9ix6Idip7XAYAIlOq6p1bYOe5C17hXZrhV6jUGn-XkOCR2RMWOIjiP4mcxejeseXVJw8OcjsJNqLjLvba7cbmD2d5NfNFgZRpXJOQpPM6lP5sEYEm4qar2P0kIdunrrdDakTtcwuIKCkjtN97_GS7kd&src-supplier=Texas+Instruments; ComponentLink2Description: https://octopart.com:443/opatz8j6/c1?t=SSdhDRwUEWccND8BYLrNj5wD1DjtHCJGpPp5qL4eDQ_gKDkqciQPO5ZgVlRSX3tJETDLPepYZu7qB-RWFbr__4iawFYiX1x0f3L0zYoZy4CUlTc3azSR3e1lnSN8-jfdVdH1s6CMhBb3JPIXtzs8hm8jvaRxQoLGESKQubNtZgDwPXHZ0ZsYo1Ep0h1d3sd73Ka2YfZZK1yMAljyxNHUS4SSJhdwFE68WOjR8hdkuIs9zH66t5n-H9ix6Idip7XAYAIlOq6p1bYOe5C17hXZrhV6jUGn-XkOCR2RMWOIjiP4mcxejeseXVJw8OcjsJNqLjLvba7cbmD2d5NfNFgZRpXJOQpPM6lP5sEYEm4qar2P0kIdunrrdDakTtcwuIKCkjtN97_GS7kd&src-supplier=Texas+Instruments; ComponentLink3URL: https://sigma.octopart.com:443/183468693/technical_drawing/Texas-Instruments-CSD19534Q5A.pdf?src-supplier=Texas+Instruments; ComponentLink3Description: https://sigma.octopart.com:443/183468693/technical_drawing/Texas-Instruments-CSD19534Q5A.pdf?src-supplier=Texas+Instruments; ComponentLink4URL: https://datasheet.octopart.com:443/CSD19534Q5A-Texas-Instruments-datasheet-37708650.pdf?src-supplier=Texas+Instruments; ComponentLink4Description: https://datasheet.octopart.com:443/CSD19534Q5A-Texas-Instruments-datasheet-37708650.pdf?src-supplier=Texas+Instruments; ComponentLink5URL: https://datasheet.octopart.com:443/CSD19534Q5A-Texas-Instruments-datasheet-26524818.pdf?src-supplier=Texas+Instruments; ComponentLink5Description: https://datasheet.octopart.com:443/CSD19534Q5A-Texas-Instruments-datasheet-26524818.pdf?src-supplier=Texas+Instruments; ComponentLink6URL: https://datasheet.octopart.com:443/CSD19534Q5A-Texas-Instruments-datasheet-164413853.pdf?src-supplier=Augswan; ComponentLink6Description: https://datasheet.octopart.com:443/CSD19534Q5A-Texas-Instruments-datasheet-164413853.pdf?src-supplier=Augswan; ComponentLink7URL: https://datasheet.octopart.com:443/CSD19534Q5A-Texas-Instruments-datasheet-159114918.pdf?src-supplier=LCSC; ComponentLink7Description: https://datasheet.octopart.com:443/CSD19534Q5A-Texas-Instruments-datasheet-159114918.pdf?src-supplier=LCSC; ComponentLink8URL: https://datasheet.octopart.com:443/CSD19534Q5A-Texas-Instruments-datasheet-142266150.pdf?src-supplier=Arrow.cn; ComponentLink8Description: https://datasheet.octopart.com:443/CSD19534Q5A-Texas-Instruments-datasheet-142266150.pdf?src-supplier=Arrow.cn; ComponentLink9URL: http://sigma.octopart.com:80/reach_statement/Texas-Instruments-company-64.pdf?src-supplier=Compliance+Statements; ComponentLink9Description: http://sigma.octopart.com:80/reach_statement/Texas-Instruments-company-64.pdf?src-supplier=Compliance+Statements; ComponentLink10URL: http://sigma.octopart.com:80/conflict_mineral_statement/Texas-Instruments-company-63.pdf?src-supplier=Compliance+Statements; ComponentLink10Description: http://sigma.octopart.com:80/conflict_mineral_statement/Texas-Instruments-company-63.pdf?src-supplier=Compliance+Statements
footprint SON 5X6 (CSD19534Q5A - CSD18540Q5B - CSD18531Q5A)
pins: 1 S, 2 S, 3 S, 4 G, 5-6-7-8 D

## CSNL2010FT5L00
designator RS?  value 5mΩ  (hidden comment: CSNL2010FT5L00)
Res Metal Foil 2010 0.005 Ohm 1% 1.5W ±50ppm/°C Molded SMD SMD Plastic T/R; Manufacturer: Stackpole Electronics; Supplier: Arrow Electronics; Supplier Part Number: CSNL2010FT5L00; Manufacturer Part Number: CSNL2010FT5L00; RoHS: Compliant; Category: Chip SMD Resistors; Stock: 61; Pricing: 1=0,302, 10=0,2557, 25=0,1568 (USD); Case/Package: 2010; Case Code (Imperial): 2010; Case Code (Metric): 5025; Composition: Metal Strip; Contact Plating: Tin; Features: Moisture Resistant; Height: 650µm; Lead Free: Lead Free; Length: 5.08mm; Lifecycle Status: Production; Max Operating Temperature: 170°C; Max Power Dissipation: 1.5W; Min Operating Temperature: -55°C; Mounting Technology: Surface Mount; Number of Terminals: 2; Number of Terminations: 2; Packaging: Cut Tape (CT); Power Rating: 1.5W; Radiation Hardening: No; REACH SVHC: Yes; Schedule B: 8533210045, 8533210045|8533210045, 8533210045|8533210045|8533210045, 8533210045|8533210045|8533210045|8533210045; Temperature Coefficient: 50ppm/°C; Tolerance: 1%; Width: 2.54mm; ComponentLink1URL: https://datasheet.octopart.com:443/CSNL2010FT5L00-Stackpole-Electronics-datasheet-141193808.pdf?src-supplier=Master+Electronics; ComponentLink1Description: https://datasheet.octopart.com:443/CSNL2010FT5L00-Stackpole-Electronics-datasheet-141193808.pdf?src-supplier=Master+Electronics; ComponentLink2URL: https://datasheet.octopart.com:443/CSNL2010FT5L00-Stackpole-Electronics-datasheet-182147900.pdf?src-supplier=IHS; ComponentLink2Description: https://datasheet.octopart.com:443/CSNL2010FT5L00-Stackpole-Electronics-datasheet-182147900.pdf?src-supplier=IHS; ComponentLink3URL: https://datasheet.octopart.com:443/CSNL2010FT5L00-Stackpole-Electronics-datasheet-141158293.pdf?src-supplier=Stackpole+Electronics; ComponentLink3Description: https://datasheet.octopart.com:443/CSNL2010FT5L00-Stackpole-Electronics-datasheet-141158293.pdf?src-supplier=Stackpole+Electronics; ComponentLink4URL: https://datasheet.octopart.com:443/CSNL2010FT5L00-Stackpole-Electronics-datasheet-10788535.pdf?src-supplier=Stackpole+Electronics; ComponentLink4Description: https://datasheet.octopart.com:443/CSNL2010FT5L00-Stackpole-Electronics-datasheet-10788535.pdf?src-supplier=Stackpole+Electronics; ComponentLink5URL: https://datasheet.octopart.com:443/CSNL2010FT5L00-Stackpole-Electronics-datasheet-62316127.pdf?src-supplier=Future+Electronics; ComponentLink5Description: https://datasheet.octopart.com:443/CSNL2010FT5L00-Stackpole-Electronics-datasheet-62316127.pdf?src-supplier=Future+Electronics; ComponentLink6URL: http://sigma.octopart.com:80/15940492/materials_sheet/Stackpole-Electronics-CSNL2010FT5L00.pdf?src-supplier=Compliance+Statements; ComponentLink6Description: http://sigma.octopart.com:80/15940492/materials_sheet/Stackpole-Electronics-CSNL2010FT5L00.pdf?src-supplier=Compliance+Statements; ComponentLink7URL: http://sigma.octopart.com:80/141158211/reach_statement/Stackpole-Electronics-CSNL2010FT5L00.pdf?src-supplier=Compliance+Statements; ComponentLink7Description: http://sigma.octopart.com:80/141158211/reach_statement/Stackpole-Electronics-CSNL2010FT5L00.pdf?src-supplier=Compliance+Statements; ComponentLink8URL: http://sigma.octopart.com:80/141158212/rohs_statement/Stackpole-Electronics-CSNL2010FT5L00.pdf?src-supplier=Compliance+Statements; ComponentLink8Description: http://sigma.octopart.com:80/141158212/rohs_statement/Stackpole-Electronics-CSNL2010FT5L00.pdf?src-supplier=Compliance+Statements
footprint RES_2010 (CSNL2010FT5L00)
pins: 1, 2

## CSR1206FK10L0
designator RS?  value 10mΩ  (hidden comment: CSR1206FK10L0)
Res Thick Film 1206 0.01 Ohm 1% 1/2W Molded SMD Paper T/R; Manufacturer: Stackpole Electronics; Max Power Dissipation: 500mW; Temperature Coefficient: 100ppm/°C; Working Voltage: 70.7mV; Supplier: Avnet; Supplier Part Number: CSR1206FK10L0; Manufacturer Part Number: CSR1206FK10L0; RoHS: Compliant; Category: Chip SMD Resistors; Stock: 53000; Pricing: 1000=0,102, 2000=0,1005, 4000=0,099, 8000=0,0975, 16000=0,096 (USD); Case/Package: 1206; Case Code (Imperial): 1206; Case Code (Metric): 3216; Composition: Thick Film; Contact Plating: Tin; Depth: 1.55mm; Height: 550µm; Lead Free: Lead Free; Length: 3.05mm; Lifecycle Status: Production; Max Operating Temperature: 155°C; Military Standard: Not; Min Operating Temperature: -55°C; Mounting Technology: Surface Mount; Number of Terminals: 2; Number of Terminations: 2; Packaging: Cut Tape (CT); Power Rating: 500mW; Radiation Hardening: No; REACH SVHC: Yes; Schedule B: 8533210045, 8533210045|8533210045, 8533210045|8533210045|8533210045, 8533210045|8533210045|8533210045|8533210045; Tolerance: 1%; Width: 1.55mm; ComponentLink1URL: https://datasheet.octopart.com:443/CSR1206FK10L0-Stackpole-Electronics-datasheet-170576569.pdf?src-supplier=IHS; ComponentLink1Description: https://datasheet.octopart.com:443/CSR1206FK10L0-Stackpole-Electronics-datasheet-170576569.pdf?src-supplier=IHS; ComponentLink2URL: https://datasheet.octopart.com:443/CSR1206FK10L0-Stackpole-Electronics-datasheet-12549637.pdf?src-supplier=Upverter; ComponentLink2Description: https://datasheet.octopart.com:443/CSR1206FK10L0-Stackpole-Electronics-datasheet-12549637.pdf?src-supplier=Upverter; ComponentLink3URL: https://datasheet.octopart.com:443/CSR1206FK10L0-Stackpole-Electronics-datasheet-12522144.pdf?src-supplier=Upverter; ComponentLink3Description: https://datasheet.octopart.com:443/CSR1206FK10L0-Stackpole-Electronics-datasheet-12522144.pdf?src-supplier=Upverter; ComponentLink4URL: https://datasheet.octopart.com:443/CSR1206FK10L0-Stackpole-Electronics-datasheet-141193797.pdf?src-supplier=Master+Electronics; ComponentLink4Description: https://datasheet.octopart.com:443/CSR1206FK10L0-Stackpole-Electronics-datasheet-141193797.pdf?src-supplier=Master+Electronics; ComponentLink5URL: https://datasheet.octopart.com:443/CSR1206FK10L0-Stackpole-Electronics-datasheet-10788265.pdf?src-supplier=Future+Electronics; ComponentLink5Description: https://datasheet.octopart.com:443/CSR1206FK10L0-Stackpole-Electronics-datasheet-10788265.pdf?src-supplier=Future+Electronics; ComponentLink6URL: https://datasheet.octopart.com:443/CSR1206FK10L0-Stackpole-Electronics-datasheet-130008997.pdf?src-supplier=Future+Electronics; ComponentLink6Description: https://datasheet.octopart.com:443/CSR1206FK10L0-Stackpole-Electronics-datasheet-130008997.pdf?src-supplier=Future+Electronics; ComponentLink7URL: https://datasheet.octopart.com:443/CSR1206FK10L0-Stackpole-Electronics-datasheet-5395846.pdf?src-supplier=Future+Electronics; ComponentLink7Description: https://datasheet.octopart.com:443/CSR1206FK10L0-Stackpole-Electronics-datasheet-5395846.pdf?src-supplier=Future+Electronics; ComponentLink8URL: https://datasheet.octopart.com:443/CSR1206FK10L0-Stackpole-Electronics-datasheet-608071.pdf?src-supplier=Stackpole+Electronics; ComponentLink8Description: https://datasheet.octopart.com:443/CSR1206FK10L0-Stackpole-Electronics-datasheet-608071.pdf?src-supplier=Stackpole+Electronics; ComponentLink9URL: https://datasheet.octopart.com:443/CSR1206FK10L0-Stackpole-Electronics-datasheet-11781806.pdf?src-supplier=Arrow+Electronics; ComponentLink9Description: https://datasheet.octopart.com:443/CSR1206FK10L0-Stackpole-Electronics-datasheet-11781806.pdf?src-supplier=Arrow+Electronics; ComponentLink10URL: http://sigma.octopart.com:80/15940493/materials_sheet/Stackpole-Electronics-CSR1206FK10L0.pdf?src-supplier=Compliance+Statements; ComponentLink10Description: http://sigma.octopart.com:80/15940493/materials_sheet/Stackpole-Electronics-CSR1206FK10L0.pdf?src-supplier=Compliance+Statements; ComponentLink11URL: http://sigma.octopart.com:80/141158212/rohs_statement/Stackpole-Electronics-CSR1206FK10L0.pdf?src-supplier=Compliance+Statements; ComponentLink11Description: http://sigma.octopart.com:80/141158212/rohs_statement/Stackpole-Electronics-CSR1206FK10L0.pdf?src-supplier=Compliance+Statements; ComponentLink12URL: http://sigma.octopart.com:80/141158211/reach_statement/Stackpole-Electronics-CSR1206FK10L0.pdf?src-supplier=Compliance+Statements; ComponentLink12Description: http://sigma.octopart.com:80/141158211/reach_statement/Stackpole-Electronics-CSR1206FK10L0.pdf?src-supplier=Compliance+Statements
footprint CAP_1206 (C3216X7R1H106K160AC - GRM31CR71E106KA12L)
pins: 1, 2

## EEH-ZA1H470P
designator C?  value 47µF  (hidden comment: EEH-ZA1H470P)
47 µF 50 V Aluminum - Polymer Capacitors Radial, Can - SMD 30mOhm 10000 Hrs @ 105°C; Manufacturer: Panasonic; Manufacturer Lifecycle Status: ACTIVE; Part Series: ZA (High temp. reflow); ESR (Equivalent Series Resistance): 30mΩ; Leakage Current: 23.5µA; Life (Hours): 10000hours; Ripple Current: 1.8A; Tolerance: 20%; Voltage Rating: 50V; Case/Package: 3333; Category: Aluminum Electrolytic Capacitors; Country of Origin: Japan; Diameter: 8mm; Export Control Classification Number (ECCN) Code: EAR99; Harmonized Tariff Schedule (HTS) Code: 8532.22.00.20; Height: 10.2mm; Introduction Date: 2019-05-31; Length: 10.2mm; Lifecycle Status: Production; Manufacturer Part Number: EEH-ZA1H470P; Material: Polymer; Max Operating Temperature: 105°C; Min Operating Temperature: -55°C; Mounting Technology: Surface Mount; Number of Terminals: 2; Ratings: AEC-Q200; REACH SVHC: Yes; RoHS: Compliant; Voltage Rating (DC): 50V; Width: 8.3mm
footprint CAP ALUM SMD (100SXV15M - 35SVPF22M)
pins: 1 C, 2 A